# Altium footprint library Connector_Dsub.PcbLib: 120 footprints (part 7 of 8)
Each footprint in its own frame and in the unit in brackets; x right, y up, seen from the top. Pads: shape width x height; smd on the part's side, far side on the other; paste and mask are expansions set on the pad; w line width, h text height; cw(c..) or ccw(c..) is an arc to the next point about the centre after c.
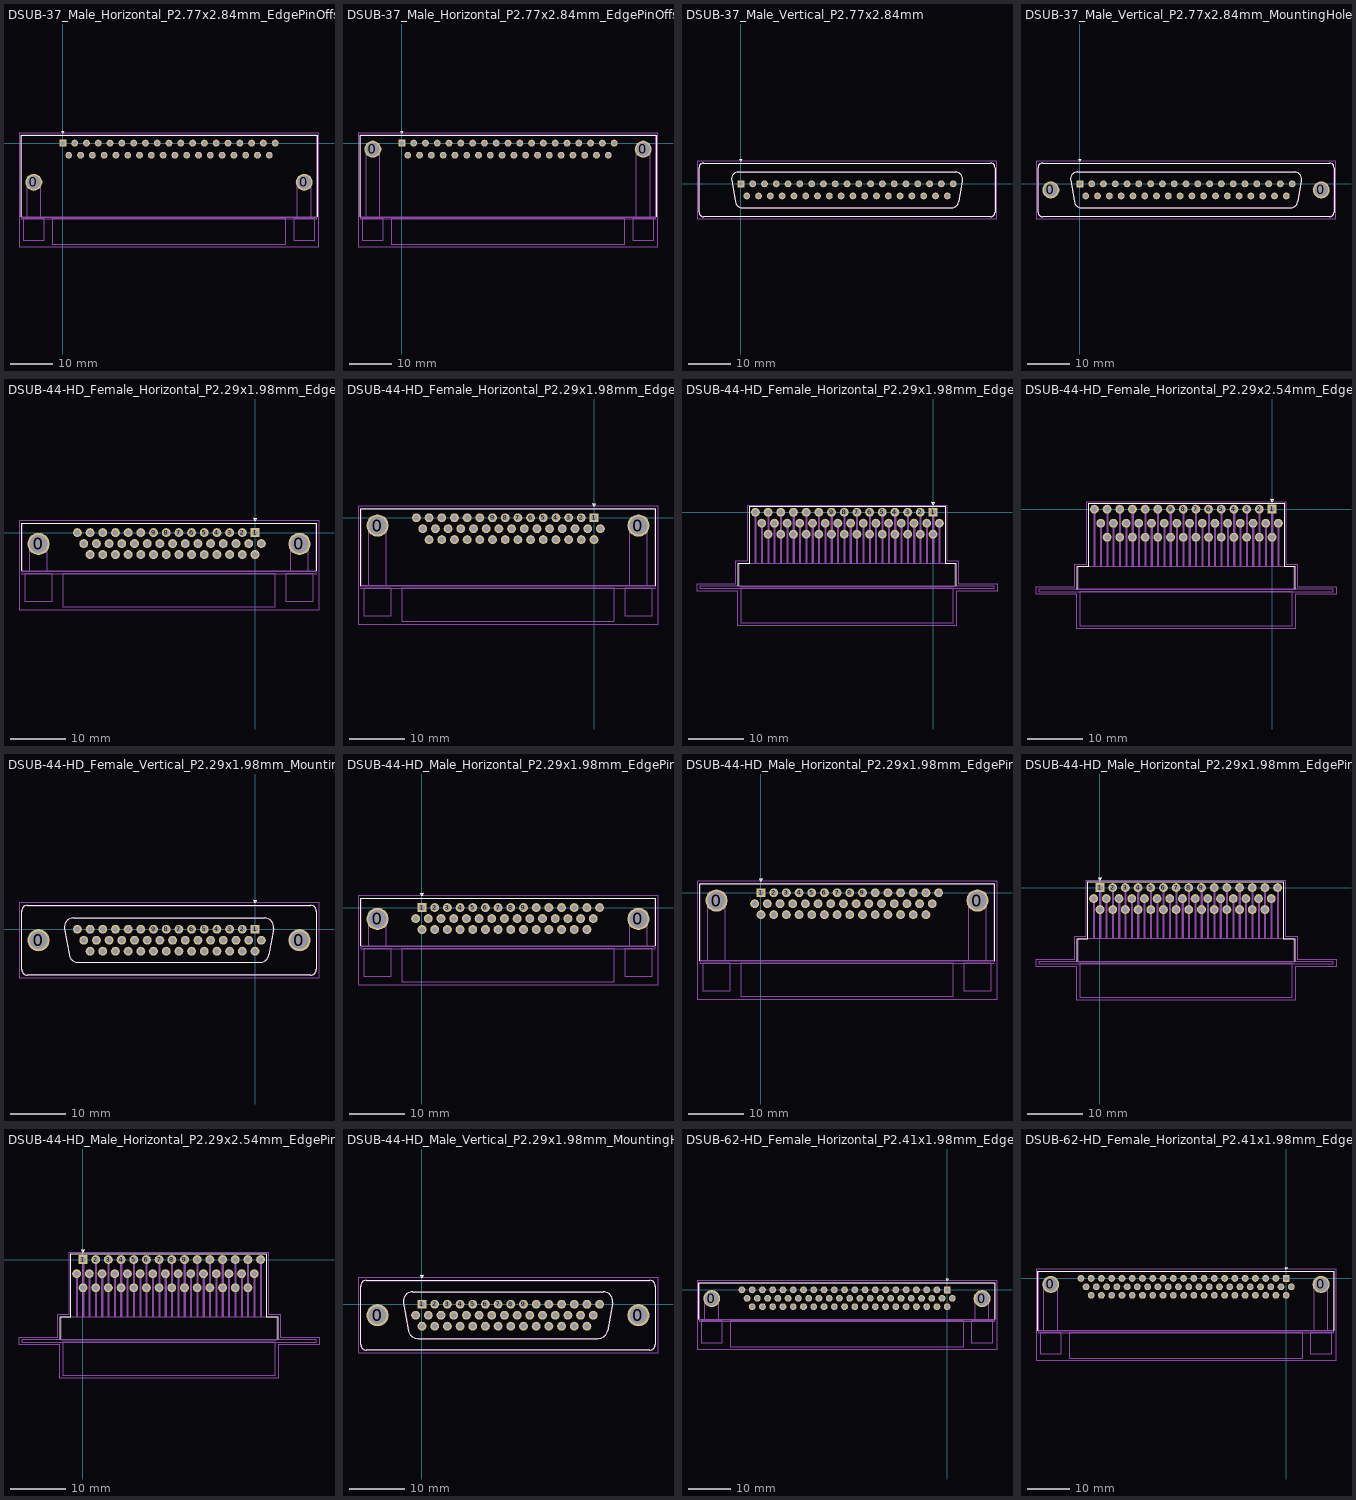
[diagram p6: the footprints below, top view; thin cyan lines are the x and y axes]

## DSUB-37_Male_Horizontal_P2.77x2.84mm_EdgePinOffset14.56mm_Housed_MountingHolesOffset8.20mm [mm]
pads (39):
  round 4 hole 3.2: 0(-6.82,-9.2) 0(56.68,-9.2)
  rect 1.6x1.6 hole 1: 1(0,0)
  round 1.6 hole 1: 2(2.77,0) 3(5.54,0) 4(8.31,0) 5(11.08,0) 6(13.85,0) 7(16.62,0) 8(19.39,0) 9(22.16,0) 10(24.93,0) 11(27.7,0) 12(30.47,0) 13(33.24,0) 14(36.01,0) 15(38.78,0) 16(41.55,0) 17(44.32,0) 18(47.09,0) 19(49.86,0) 20(1.385,-2.84) 21(4.155,-2.84) 22(6.925,-2.84) 23(9.695,-2.84) 24(12.465,-2.84) 25(15.235,-2.84) 26(18.005,-2.84) 27(20.775,-2.84) 28(23.545,-2.84) 29(26.315,-2.84) 30(29.085,-2.84) 31(31.855,-2.84) 32(34.625,-2.84) 33(37.395,-2.84) 34(40.165,-2.84) 35(42.935,-2.84) 36(45.705,-2.84) 37(48.475,-2.84)
F.SilkS:
  lines w0.12: -9.83,-17.34 -9.83,1.86 59.69,1.86 59.69,-17.34 ; -0.25,2.754 0,2.321 0.25,2.754 -0.25,2.754
F.CrtYd:
  lines w0.05: -10.3,-24.3 60.15,-24.3 60.15,2.3 -10.3,2.3 -10.3,-24.3
F.Fab:
  lines w0.1: -8.42,-17.4 -8.42,-9.2 cw(c-6.82,-9.2) -5.22,-9.2 -5.22,-17.4 ; 55.08,-17.4 55.08,-9.2 cw(c56.68,-9.2) 58.28,-9.2 58.28,-17.4 ; -9.77,-17.4 59.63,-17.4 ; -9.77,-17.4 -9.77,-17.8 59.63,-17.8 59.63,-17.4 ; -9.77,-17.4 -9.77,1.8 59.63,1.8 59.63,-17.4 ; -9.77,-17.4 59.63,-17.4 ; -9.32,-22.8 -4.32,-22.8 -4.32,-17.8 -9.32,-17.8 -9.32,-22.8 ; -2.47,-23.8 52.33,-23.8 52.33,-17.8 -2.47,-17.8 -2.47,-23.8 ; 54.18,-22.8 54.18,-17.8 59.18,-17.8 59.18,-22.8 54.18,-22.8
  text "'.Designator'" at 20.883,-21.64 h1

## DSUB-37_Male_Horizontal_P2.77x2.84mm_EdgePinOffset14.56mm_Housed_MountingHolesOffset15.98mm [mm]
pads (39):
  round 4 hole 3.2: 0(-6.82,-1.42) 0(56.68,-1.42)
  rect 1.6x1.6 hole 1: 1(0,0)
  round 1.6 hole 1: 2(2.77,0) 3(5.54,0) 4(8.31,0) 5(11.08,0) 6(13.85,0) 7(16.62,0) 8(19.39,0) 9(22.16,0) 10(24.93,0) 11(27.7,0) 12(30.47,0) 13(33.24,0) 14(36.01,0) 15(38.78,0) 16(41.55,0) 17(44.32,0) 18(47.09,0) 19(49.86,0) 20(1.385,-2.84) 21(4.155,-2.84) 22(6.925,-2.84) 23(9.695,-2.84) 24(12.465,-2.84) 25(15.235,-2.84) 26(18.005,-2.84) 27(20.775,-2.84) 28(23.545,-2.84) 29(26.315,-2.84) 30(29.085,-2.84) 31(31.855,-2.84) 32(34.625,-2.84) 33(37.395,-2.84) 34(40.165,-2.84) 35(42.935,-2.84) 36(45.705,-2.84) 37(48.475,-2.84)
F.SilkS:
  lines w0.12: -9.83,-17.34 -9.83,1.86 59.69,1.86 59.69,-17.34 ; -0.25,2.754 0,2.321 0.25,2.754 -0.25,2.754
F.CrtYd:
  lines w0.05: -10.3,-24.3 60.15,-24.3 60.15,2.3 -10.3,2.3 -10.3,-24.3
F.Fab:
  lines w0.1: -8.42,-17.4 -8.42,-1.42 cw(c-6.82,-1.42) -5.22,-1.42 -5.22,-17.4 ; 55.08,-17.4 55.08,-1.42 cw(c56.68,-1.42) 58.28,-1.42 58.28,-17.4 ; -9.77,-17.4 -9.77,-17.8 59.63,-17.8 59.63,-17.4 ; -9.77,-17.4 59.63,-17.4 ; -9.77,-17.4 59.63,-17.4 ; -9.77,-17.4 -9.77,1.8 59.63,1.8 59.63,-17.4 ; -9.32,-22.8 -9.32,-17.8 -4.32,-17.8 -4.32,-22.8 -9.32,-22.8 ; -2.47,-23.8 52.33,-23.8 52.33,-17.8 -2.47,-17.8 -2.47,-23.8 ; 54.18,-22.8 59.18,-22.8 59.18,-17.8 54.18,-17.8 54.18,-22.8
  text "'.Designator'" at 20.883,-21.64 h1

## DSUB-37_Male_Vertical_P2.77x2.84mm [mm]
pads (37):
  rect 1.6x1.6 hole 1: 1(0,0)
  round 1.6 hole 1: 2(2.77,0) 3(5.54,0) 4(8.31,0) 5(11.08,0) 6(13.85,0) 7(16.62,0) 8(19.39,0) 9(22.16,0) 10(24.93,0) 11(27.7,0) 12(30.47,0) 13(33.24,0) 14(36.01,0) 15(38.78,0) 16(41.55,0) 17(44.32,0) 18(47.09,0) 19(49.86,0) 20(1.385,-2.84) 21(4.155,-2.84) 22(6.925,-2.84) 23(9.695,-2.84) 24(12.465,-2.84) 25(15.235,-2.84) 26(18.005,-2.84) 27(20.775,-2.84) 28(23.545,-2.84) 29(26.315,-2.84) 30(29.085,-2.84) 31(31.855,-2.84) 32(34.625,-2.84) 33(37.395,-2.84) 34(40.165,-2.84) 35(42.935,-2.84) 36(45.705,-2.84) 37(48.475,-2.84)
F.SilkS:
  lines w0.12: -9.83,-6.67 -9.83,3.83 cw(c-8.77,3.83) -8.77,4.89 58.63,4.89 cw(c58.63,3.83) 59.69,3.83 59.69,-6.67 cw(c58.63,-6.67) 58.63,-7.73 -8.77,-7.73 cw(c-8.77,-6.67) -9.83,-6.67 ; -2.186,0.842 -1.287,-4.258 ccw(c0.348,-3.97) 0.348,-5.63 49.512,-5.63 ccw(c49.512,-3.97) 51.147,-4.258 52.046,0.842 ccw(c50.412,1.13) 50.412,2.79 -0.552,2.79 ccw(c-0.552,1.13) -2.186,0.842 ; -0.25,5.784 0.25,5.784 0,5.351 -0.25,5.784
F.CrtYd:
  lines w0.05: -10.3,-8.2 60.15,-8.2 60.15,5.35 -10.3,5.35 -10.3,-8.2
F.Fab:
  lines w0.1: -9.77,-6.67 -9.77,3.83 cw(c-8.77,3.83) -8.77,4.83 58.63,4.83 cw(c58.63,3.83) 59.63,3.83 59.63,-6.67 cw(c58.63,-6.67) 58.63,-7.67 -8.77,-7.67 cw(c-8.77,-6.67) -9.77,-6.67 ; -2.139,0.852 -1.24,-4.248 ccw(c0.336,-3.97) 0.336,-5.57 49.524,-5.57 ccw(c49.524,-3.97) 51.1,-4.248 51.999,0.852 ccw(c50.423,1.13) 50.423,2.73 -0.563,2.73 ccw(c-0.563,1.13) -2.139,0.852
  text "'.Designator'" at 20.883,-2.26 h1

## DSUB-37_Male_Vertical_P2.77x2.84mm_MountingHoles [mm]
pads (39):
  round 4 hole 3.2: 0(-6.82,-1.42) 0(56.68,-1.42)
  rect 1.6x1.6 hole 1: 1(0,0)
  round 1.6 hole 1: 2(2.77,0) 3(5.54,0) 4(8.31,0) 5(11.08,0) 6(13.85,0) 7(16.62,0) 8(19.39,0) 9(22.16,0) 10(24.93,0) 11(27.7,0) 12(30.47,0) 13(33.24,0) 14(36.01,0) 15(38.78,0) 16(41.55,0) 17(44.32,0) 18(47.09,0) 19(49.86,0) 20(1.385,-2.84) 21(4.155,-2.84) 22(6.925,-2.84) 23(9.695,-2.84) 24(12.465,-2.84) 25(15.235,-2.84) 26(18.005,-2.84) 27(20.775,-2.84) 28(23.545,-2.84) 29(26.315,-2.84) 30(29.085,-2.84) 31(31.855,-2.84) 32(34.625,-2.84) 33(37.395,-2.84) 34(40.165,-2.84) 35(42.935,-2.84) 36(45.705,-2.84) 37(48.475,-2.84)
F.SilkS:
  lines w0.12: -9.83,-6.67 -9.83,3.83 cw(c-8.77,3.83) -8.77,4.89 58.63,4.89 cw(c58.63,3.83) 59.69,3.83 59.69,-6.67 cw(c58.63,-6.67) 58.63,-7.73 -8.77,-7.73 cw(c-8.77,-6.67) -9.83,-6.67 ; -2.186,0.842 -1.287,-4.258 ccw(c0.348,-3.97) 0.348,-5.63 49.512,-5.63 ccw(c49.512,-3.97) 51.147,-4.258 52.046,0.842 ccw(c50.412,1.13) 50.412,2.79 -0.552,2.79 ccw(c-0.552,1.13) -2.186,0.842 ; -0.25,5.784 0,5.351 0.25,5.784 -0.25,5.784
F.CrtYd:
  lines w0.05: -10.3,-8.2 -10.3,5.35 60.15,5.35 60.15,-8.2 -10.3,-8.2
F.Fab:
  lines w0.1: -9.77,-6.67 -9.77,3.83 cw(c-8.77,3.83) -8.77,4.83 58.63,4.83 cw(c58.63,3.83) 59.63,3.83 59.63,-6.67 cw(c58.63,-6.67) 58.63,-7.67 -8.77,-7.67 cw(c-8.77,-6.67) -9.77,-6.67 ; -2.139,0.852 -1.24,-4.248 ccw(c0.336,-3.97) 0.336,-5.57 49.524,-5.57 ccw(c49.524,-3.97) 51.1,-4.248 51.999,0.852 ccw(c50.423,1.13) 50.423,2.73 -0.563,2.73 ccw(c-0.563,1.13) -2.139,0.852
  text "'.Designator'" at 20.883,-2.26 h1

## DSUB-44-HD_Female_Horizontal_P2.29x1.98mm_EdgePinOffset3.03mm_Housed_MountingHolesOffset4.94mm [mm]
pads (46):
  round 4 hole 3.2: 0(-39.075,-2.05) 0(8.025,-2.05)
  rect 1.6x1.6 hole 1: 1(0,0)
  round 1.6 hole 1: 2(-2.29,0) 3(-4.58,0) 4(-6.87,0) 5(-9.16,0) 6(-11.45,0) 7(-13.74,0) 8(-16.03,0) 9(-18.32,0) 10(-20.61,0) 11(-22.9,0) 12(-25.19,0) 13(-27.48,0) 14(-29.77,0) 15(-32.06,0) 16(1.145,-1.98) 17(-1.145,-1.98) 18(-3.435,-1.98) 19(-5.725,-1.98) 20(-8.015,-1.98) 21(-10.305,-1.98) 22(-12.595,-1.98) 23(-14.885,-1.98) 24(-17.175,-1.98) 25(-19.465,-1.98) 26(-21.755,-1.98) 27(-24.045,-1.98) 28(-26.335,-1.98) 29(-28.625,-1.98) 30(-30.915,-1.98) 31(0,-3.96) 32(-2.29,-3.96) 33(-4.58,-3.96) 34(-6.87,-3.96) 35(-9.16,-3.96) 36(-11.45,-3.96) 37(-13.74,-3.96) 38(-16.03,-3.96) 39(-18.32,-3.96) 40(-20.61,-3.96) 41(-22.9,-3.96) 42(-25.19,-3.96) 43(-27.48,-3.96) 44(-29.77,-3.96)
F.SilkS:
  lines w0.12: -42.135,-6.93 -42.135,1.67 11.085,1.67 11.085,-6.93 ; -0.25,2.564 0,2.131 0.25,2.564 -0.25,2.564
F.CrtYd:
  lines w0.05: -42.6,-13.9 11.55,-13.9 11.55,2.15 -42.6,2.15 -42.6,-13.9
F.Fab:
  lines w0.1: -40.675,-6.99 -40.675,-2.05 cw(c-39.075,-2.05) -37.475,-2.05 -37.475,-6.99 ; 6.425,-6.99 6.425,-2.05 cw(c8.025,-2.05) 9.625,-2.05 9.625,-6.99 ; -42.075,-6.99 11.025,-6.99 ; -42.075,-6.99 -42.075,-7.39 11.025,-7.39 11.025,-6.99 ; -42.075,-6.99 -42.075,1.61 11.025,1.61 11.025,-6.99 ; -42.075,-6.99 11.025,-6.99 ; -41.575,-12.39 -41.575,-7.39 -36.575,-7.39 -36.575,-12.39 -41.575,-12.39 ; -34.675,-13.39 -34.675,-7.39 3.625,-7.39 3.625,-13.39 -34.675,-13.39 ; 5.525,-12.39 10.525,-12.39 10.525,-7.39 5.525,-7.39 5.525,-12.39
  text "'.Designator'" at -19.572,-11.23 h1

## DSUB-44-HD_Female_Horizontal_P2.29x1.98mm_EdgePinOffset8.35mm_Housed_MountingHolesOffset10.89mm [mm]
pads (46):
  round 4 hole 3.2: 0(-39.075,-1.42) 0(8.025,-1.42)
  rect 1.6x1.6 hole 1: 1(0,0)
  round 1.6 hole 1: 2(-2.29,0) 3(-4.58,0) 4(-6.87,0) 5(-9.16,0) 6(-11.45,0) 7(-13.74,0) 8(-16.03,0) 9(-18.32,0) 10(-20.61,0) 11(-22.9,0) 12(-25.19,0) 13(-27.48,0) 14(-29.77,0) 15(-32.06,0) 16(1.145,-1.98) 17(-1.145,-1.98) 18(-3.435,-1.98) 19(-5.725,-1.98) 20(-8.015,-1.98) 21(-10.305,-1.98) 22(-12.595,-1.98) 23(-14.885,-1.98) 24(-17.175,-1.98) 25(-19.465,-1.98) 26(-21.755,-1.98) 27(-24.045,-1.98) 28(-26.335,-1.98) 29(-28.625,-1.98) 30(-30.915,-1.98) 31(0,-3.96) 32(-2.29,-3.96) 33(-4.58,-3.96) 34(-6.87,-3.96) 35(-9.16,-3.96) 36(-11.45,-3.96) 37(-13.74,-3.96) 38(-16.03,-3.96) 39(-18.32,-3.96) 40(-20.61,-3.96) 41(-22.9,-3.96) 42(-25.19,-3.96) 43(-27.48,-3.96) 44(-29.77,-3.96)
F.SilkS:
  lines w0.12: -42.135,-12.25 -42.135,1.64 11.085,1.64 11.085,-12.25 ; -0.25,2.534 0,2.101 0.25,2.534 -0.25,2.534
F.CrtYd:
  lines w0.05: -42.6,-19.25 -42.6,2.1 11.55,2.1 11.55,-19.25 -42.6,-19.25
F.Fab:
  lines w0.1: -40.675,-12.31 -40.675,-1.42 cw(c-39.075,-1.42) -37.475,-1.42 -37.475,-12.31 ; 6.425,-12.31 6.425,-1.42 cw(c8.025,-1.42) 9.625,-1.42 9.625,-12.31 ; -42.075,-12.31 11.025,-12.31 ; -42.075,-12.31 -42.075,-12.71 11.025,-12.71 11.025,-12.31 ; -42.075,-12.31 -42.075,1.58 11.025,1.58 11.025,-12.31 ; -42.075,-12.31 11.025,-12.31 ; -41.575,-17.71 -36.575,-17.71 -36.575,-12.71 -41.575,-12.71 -41.575,-17.71 ; -34.675,-18.71 3.625,-18.71 3.625,-12.71 -34.675,-12.71 -34.675,-18.71 ; 5.525,-17.71 5.525,-12.71 10.525,-12.71 10.525,-17.71 5.525,-17.71
  text "'.Designator'" at -19.572,-16.55 h1

## DSUB-44-HD_Female_Horizontal_P2.29x1.98mm_EdgePinOffset9.40mm [mm]
pads (44):
  rect 1.6x1.6 hole 1: 1(0,0)
  round 1.6 hole 1: 2(-2.29,0) 3(-4.58,0) 4(-6.87,0) 5(-9.16,0) 6(-11.45,0) 7(-13.74,0) 8(-16.03,0) 9(-18.32,0) 10(-20.61,0) 11(-22.9,0) 12(-25.19,0) 13(-27.48,0) 14(-29.77,0) 15(-32.06,0) 16(1.145,-1.98) 17(-1.145,-1.98) 18(-3.435,-1.98) 19(-5.725,-1.98) 20(-8.015,-1.98) 21(-10.305,-1.98) 22(-12.595,-1.98) 23(-14.885,-1.98) 24(-17.175,-1.98) 25(-19.465,-1.98) 26(-21.755,-1.98) 27(-24.045,-1.98) 28(-26.335,-1.98) 29(-28.625,-1.98) 30(-30.915,-1.98) 31(0,-3.96) 32(-2.29,-3.96) 33(-4.58,-3.96) 34(-6.87,-3.96) 35(-9.16,-3.96) 36(-11.45,-3.96) 37(-13.74,-3.96) 38(-16.03,-3.96) 39(-18.32,-3.96) 40(-20.61,-3.96) 41(-22.9,-3.96) 42(-25.19,-3.96) 43(-27.48,-3.96) 44(-29.77,-3.96)
F.SilkS:
  lines w0.12: -35.135,-13.3 -35.135,-9.2 -33.12,-9.2 -33.12,1.06 2.205,1.06 2.205,-9.2 4.085,-9.2 4.085,-13.3 ; -0.25,1.754 0,1.321 0.25,1.754 -0.25,1.754
F.CrtYd:
  lines w0.05: -42.6,-14.3 -35.2,-14.3 -35.2,-20.45 4.15,-20.45 4.15,-14.3 11.55,-14.3 11.55,-12.9 4.55,-12.9 4.55,-8.8 2.45,-8.8 2.45,1.3 -33.4,1.3 -33.4,-8.8 -35.6,-8.8 -35.6,-12.9 -42.6,-12.9 -42.6,-14.3
F.Fab:
  lines w0.1: -32.16,-9.26 -32.16,0 ; -32.06,-9.26 -32.06,0 ; -31.96,-9.26 -31.96,0 ; -31.015,-9.26 -31.015,-1.98 ; -30.915,-9.26 -30.915,-1.98 ; -30.815,-9.26 -30.815,-1.98 ; -29.87,-3.96 -29.87,-9.26 -29.87,0 ; -29.77,-3.96 -29.77,-9.26 -29.77,0 ; -29.67,-3.96 -29.67,-9.26 -29.67,0 ; -28.725,-9.26 -28.725,-1.98 ; -28.625,-9.26 -28.625,-1.98 ; -28.525,-9.26 -28.525,-1.98 ; -27.58,-3.96 -27.58,-9.26 -27.58,0 ; -27.48,-3.96 -27.48,-9.26 -27.48,0 ; -27.38,-3.96 -27.38,-9.26 -27.38,0 ; -26.435,-9.26 -26.435,-1.98 ; -26.335,-9.26 -26.335,-1.98 ; -26.235,-9.26 -26.235,-1.98 ; -25.29,-3.96 -25.29,-9.26 -25.29,0 ; -25.19,-3.96 -25.19,-9.26 -25.19,0 ; -25.09,-3.96 -25.09,-9.26 -25.09,0 ; -24.145,-9.26 -24.145,-1.98 ; -24.045,-9.26 -24.045,-1.98 ; -23.945,-9.26 -23.945,-1.98 ; -23,-3.96 -23,-9.26 -23,0 ; -22.9,-3.96 -22.9,-9.26 -22.9,0 ; -22.8,-3.96 -22.8,-9.26 -22.8,0 ; -21.855,-9.26 -21.855,-1.98 ; -21.755,-9.26 -21.755,-1.98 ; -21.655,-9.26 -21.655,-1.98 ; -20.71,-3.96 -20.71,-9.26 -20.71,0 ; -20.61,-3.96 -20.61,-9.26 -20.61,0 ; -20.51,-3.96 -20.51,-9.26 -20.51,0 ; -19.565,-9.26 -19.565,-1.98 ; -19.465,-9.26 -19.465,-1.98 ; -19.365,-9.26 -19.365,-1.98 ; -18.42,-3.96 -18.42,-9.26 -18.42,0 ; -18.32,-3.96 -18.32,-9.26 -18.32,0 ; -18.22,-3.96 -18.22,-9.26 -18.22,0 ; -17.275,-9.26 -17.275,-1.98 ; -17.175,-9.26 -17.175,-1.98 ; -17.075,-9.26 -17.075,-1.98 ; -16.13,-3.96 -16.13,-9.26 -16.13,0 ; -16.03,-3.96 -16.03,-9.26 -16.03,0 ; -15.93,-3.96 -15.93,-9.26 -15.93,0 ; -14.985,-9.26 -14.985,-1.98 ; -14.885,-9.26 -14.885,-1.98 ; -14.785,-9.26 -14.785,-1.98 ; -13.84,-3.96 -13.84,-9.26 -13.84,0 ; -13.74,-3.96 -13.74,-9.26 -13.74,0 ; -13.64,-3.96 -13.64,-9.26 -13.64,0 ; -12.695,-9.26 -12.695,-1.98 ; -12.595,-9.26 -12.595,-1.98 ; -12.495,-9.26 -12.495,-1.98 ; -11.55,-3.96 -11.55,-9.26 -11.55,0 ; -11.45,-3.96 -11.45,-9.26 -11.45,0 ; -11.35,-3.96 -11.35,-9.26 -11.35,0 ; -10.405,-9.26 -10.405,-1.98 ; -10.305,-9.26 -10.305,-1.98 ; -10.205,-9.26 -10.205,-1.98 ; -9.26,-3.96 -9.26,-9.26 -9.26,0 ; -9.16,-3.96 -9.16,-9.26 -9.16,0 ; -9.06,-3.96 -9.06,-9.26 -9.06,0 ; -8.115,-9.26 -8.115,-1.98 ; -8.015,-9.26 -8.015,-1.98 ; -7.915,-9.26 -7.915,-1.98 ; -6.97,-3.96 -6.97,-9.26 -6.97,0 ; -6.87,-3.96 -6.87,-9.26 -6.87,0 ; -6.77,-3.96 -6.77,-9.26 -6.77,0 ; -5.825,-9.26 -5.825,-1.98 ; -5.725,-9.26 -5.725,-1.98 ; -5.625,-9.26 -5.625,-1.98 ; -4.68,-3.96 -4.68,-9.26 -4.68,0 ; -4.58,-3.96 -4.58,-9.26 -4.58,0 ; -4.48,-3.96 -4.48,-9.26 -4.48,0 ; -3.535,-9.26 -3.535,-1.98 ; -3.435,-9.26 -3.435,-1.98 ; -3.335,-9.26 -3.335,-1.98 ; -2.39,-3.96 -2.39,-9.26 -2.39,0 ; -2.29,-3.96 -2.29,-9.26 -2.29,0 ; -2.19,-3.96 -2.19,-9.26 -2.19,0 ; -1.245,-9.26 -1.245,-1.98 ; -1.145,-9.26 -1.145,-1.98 ; -1.045,-9.26 -1.045,-1.98 ; -0.1,-3.96 -0.1,-9.26 -0.1,0 ; 0,-3.96 0,-9.26 0,0 ; 0.1,-3.96 0.1,-9.26 0.1,0 ; 1.045,-9.26 1.045,-1.98 ; 1.145,-9.26 1.145,-1.98 ; 1.245,-9.26 1.245,-1.98 ; -42.075,-13.76 11.025,-13.76 11.025,-13.36 -42.075,-13.36 -42.075,-13.76 ; -35.075,-13.36 -35.075,-9.26 4.025,-9.26 4.025,-13.36 -35.075,-13.36 ; -34.675,-19.93 3.625,-19.93 3.625,-13.76 -34.675,-13.76 -34.675,-19.93
  text "'.Designator'" at -19.572,-17.685 h1

## DSUB-44-HD_Female_Horizontal_P2.29x2.54mm_EdgePinOffset9.40mm [mm]
pads (44):
  rect 1.6x1.6 hole 1: 1(0,0)
  round 1.6 hole 1: 2(-2.29,0) 3(-4.58,0) 4(-6.87,0) 5(-9.16,0) 6(-11.45,0) 7(-13.74,0) 8(-16.03,0) 9(-18.32,0) 10(-20.61,0) 11(-22.9,0) 12(-25.19,0) 13(-27.48,0) 14(-29.77,0) 15(-32.06,0) 16(1.145,-2.54) 17(-1.145,-2.54) 18(-3.435,-2.54) 19(-5.725,-2.54) 20(-8.015,-2.54) 21(-10.305,-2.54) 22(-12.595,-2.54) 23(-14.885,-2.54) 24(-17.175,-2.54) 25(-19.465,-2.54) 26(-21.755,-2.54) 27(-24.045,-2.54) 28(-26.335,-2.54) 29(-28.625,-2.54) 30(-30.915,-2.54) 31(0,-5.08) 32(-2.29,-5.08) 33(-4.58,-5.08) 34(-6.87,-5.08) 35(-9.16,-5.08) 36(-11.45,-5.08) 37(-13.74,-5.08) 38(-16.03,-5.08) 39(-18.32,-5.08) 40(-20.61,-5.08) 41(-22.9,-5.08) 42(-25.19,-5.08) 43(-27.48,-5.08) 44(-29.77,-5.08)
F.SilkS:
  lines w0.12: -35.135,-14.42 -35.135,-10.32 -33.12,-10.32 -33.12,1.06 2.205,1.06 2.205,-10.32 4.085,-10.32 4.085,-14.42 ; -0.25,1.754 0,1.321 0.25,1.754 -0.25,1.754
F.CrtYd:
  lines w0.05: -42.6,-15.4 -42.6,-14 -35.6,-14 -35.6,-9.9 -33.4,-9.9 -33.4,1.35 2.45,1.35 2.45,-9.9 4.55,-9.9 4.55,-14 11.55,-14 11.55,-15.4 4.15,-15.4 4.15,-21.55 -35.2,-21.55 -35.2,-15.4 -42.6,-15.4
F.Fab:
  lines w0.1: -32.16,-10.38 -32.16,0 ; -32.06,-10.38 -32.06,0 ; -31.96,-10.38 -31.96,0 ; -31.015,-10.38 -31.015,-2.54 ; -30.915,-10.38 -30.915,-2.54 ; -30.815,-10.38 -30.815,-2.54 ; -29.87,-5.08 -29.87,-10.38 -29.87,0 ; -29.77,-5.08 -29.77,-10.38 -29.77,0 ; -29.67,-5.08 -29.67,-10.38 -29.67,0 ; -28.725,-10.38 -28.725,-2.54 ; -28.625,-10.38 -28.625,-2.54 ; -28.525,-10.38 -28.525,-2.54 ; -27.58,-5.08 -27.58,-10.38 -27.58,0 ; -27.48,-5.08 -27.48,-10.38 -27.48,0 ; -27.38,-5.08 -27.38,-10.38 -27.38,0 ; -26.435,-10.38 -26.435,-2.54 ; -26.335,-10.38 -26.335,-2.54 ; -26.235,-10.38 -26.235,-2.54 ; -25.29,-5.08 -25.29,-10.38 -25.29,0 ; -25.19,-5.08 -25.19,-10.38 -25.19,0 ; -25.09,-5.08 -25.09,-10.38 -25.09,0 ; -24.145,-10.38 -24.145,-2.54 ; -24.045,-10.38 -24.045,-2.54 ; -23.945,-10.38 -23.945,-2.54 ; -23,-5.08 -23,-10.38 -23,0 ; -22.9,-5.08 -22.9,-10.38 -22.9,0 ; -22.8,-5.08 -22.8,-10.38 -22.8,0 ; -21.855,-10.38 -21.855,-2.54 ; -21.755,-10.38 -21.755,-2.54 ; -21.655,-10.38 -21.655,-2.54 ; -20.71,-5.08 -20.71,-10.38 -20.71,0 ; -20.61,-5.08 -20.61,-10.38 -20.61,0 ; -20.51,-5.08 -20.51,-10.38 -20.51,0 ; -19.565,-10.38 -19.565,-2.54 ; -19.465,-10.38 -19.465,-2.54 ; -19.365,-10.38 -19.365,-2.54 ; -18.42,-5.08 -18.42,-10.38 -18.42,0 ; -18.32,-5.08 -18.32,-10.38 -18.32,0 ; -18.22,-5.08 -18.22,-10.38 -18.22,0 ; -17.275,-10.38 -17.275,-2.54 ; -17.175,-10.38 -17.175,-2.54 ; -17.075,-10.38 -17.075,-2.54 ; -16.13,-5.08 -16.13,-10.38 -16.13,0 ; -16.03,-5.08 -16.03,-10.38 -16.03,0 ; -15.93,-5.08 -15.93,-10.38 -15.93,0 ; -14.985,-10.38 -14.985,-2.54 ; -14.885,-10.38 -14.885,-2.54 ; -14.785,-10.38 -14.785,-2.54 ; -13.84,-5.08 -13.84,-10.38 -13.84,0 ; -13.74,-5.08 -13.74,-10.38 -13.74,0 ; -13.64,-5.08 -13.64,-10.38 -13.64,0 ; -12.695,-10.38 -12.695,-2.54 ; -12.595,-10.38 -12.595,-2.54 ; -12.495,-10.38 -12.495,-2.54 ; -11.55,-5.08 -11.55,-10.38 -11.55,0 ; -11.45,-5.08 -11.45,-10.38 -11.45,0 ; -11.35,-5.08 -11.35,-10.38 -11.35,0 ; -10.405,-10.38 -10.405,-2.54 ; -10.305,-10.38 -10.305,-2.54 ; -10.205,-10.38 -10.205,-2.54 ; -9.26,-5.08 -9.26,-10.38 -9.26,0 ; -9.16,-5.08 -9.16,-10.38 -9.16,0 ; -9.06,-5.08 -9.06,-10.38 -9.06,0 ; -8.115,-10.38 -8.115,-2.54 ; -8.015,-10.38 -8.015,-2.54 ; -7.915,-10.38 -7.915,-2.54 ; -6.97,-5.08 -6.97,-10.38 -6.97,0 ; -6.87,-5.08 -6.87,-10.38 -6.87,0 ; -6.77,-5.08 -6.77,-10.38 -6.77,0 ; -5.825,-10.38 -5.825,-2.54 ; -5.725,-10.38 -5.725,-2.54 ; -5.625,-10.38 -5.625,-2.54 ; -4.68,-5.08 -4.68,-10.38 -4.68,0 ; -4.58,-5.08 -4.58,-10.38 -4.58,0 ; -4.48,-5.08 -4.48,-10.38 -4.48,0 ; -3.535,-10.38 -3.535,-2.54 ; -3.435,-10.38 -3.435,-2.54 ; -3.335,-10.38 -3.335,-2.54 ; -2.39,-5.08 -2.39,-10.38 -2.39,0 ; -2.29,-5.08 -2.29,-10.38 -2.29,0 ; -2.19,-5.08 -2.19,-10.38 -2.19,0 ; -1.245,-10.38 -1.245,-2.54 ; -1.145,-10.38 -1.145,-2.54 ; -1.045,-10.38 -1.045,-2.54 ; -0.1,-5.08 -0.1,-10.38 -0.1,0 ; 0,-5.08 0,-10.38 0,0 ; 0.1,-5.08 0.1,-10.38 0.1,0 ; 1.045,-10.38 1.045,-2.54 ; 1.145,-10.38 1.145,-2.54 ; 1.245,-10.38 1.245,-2.54 ; -42.075,-14.88 11.025,-14.88 11.025,-14.48 -42.075,-14.48 -42.075,-14.88 ; -35.075,-14.48 -35.075,-10.38 4.025,-10.38 4.025,-14.48 -35.075,-14.48 ; -34.675,-21.05 -34.675,-14.88 3.625,-14.88 3.625,-21.05 -34.675,-21.05
  text "'.Designator'" at -19.572,-18.805 h1

## DSUB-44-HD_Female_Vertical_P2.29x1.98mm_MountingHoles [mm]
pads (46):
  round 4 hole 3.2: 0(-39.075,-1.98) 0(8.025,-1.98)
  rect 1.6x1.6 hole 1: 1(0,0)
  round 1.6 hole 1: 2(-2.29,0) 3(-4.58,0) 4(-6.87,0) 5(-9.16,0) 6(-11.45,0) 7(-13.74,0) 8(-16.03,0) 9(-18.32,0) 10(-20.61,0) 11(-22.9,0) 12(-25.19,0) 13(-27.48,0) 14(-29.77,0) 15(-32.06,0) 16(1.145,-1.98) 17(-1.145,-1.98) 18(-3.435,-1.98) 19(-5.725,-1.98) 20(-8.015,-1.98) 21(-10.305,-1.98) 22(-12.595,-1.98) 23(-14.885,-1.98) 24(-17.175,-1.98) 25(-19.465,-1.98) 26(-21.755,-1.98) 27(-24.045,-1.98) 28(-26.335,-1.98) 29(-28.625,-1.98) 30(-30.915,-1.98) 31(0,-3.96) 32(-2.29,-3.96) 33(-4.58,-3.96) 34(-6.87,-3.96) 35(-9.16,-3.96) 36(-11.45,-3.96) 37(-13.74,-3.96) 38(-16.03,-3.96) 39(-18.32,-3.96) 40(-20.61,-3.96) 41(-22.9,-3.96) 42(-25.19,-3.96) 43(-27.48,-3.96) 44(-29.77,-3.96)
F.SilkS:
  lines w0.12: -42.135,-7.23 -42.135,3.27 cw(c-41.075,3.27) -41.075,4.33 10.025,4.33 cw(c10.025,3.27) 11.085,3.27 11.085,-7.23 cw(c10.025,-7.23) 10.025,-8.29 -41.075,-8.29 cw(c-41.075,-7.23) -42.135,-7.23 ; -34.391,0.082 -33.563,-4.618 ccw(c-31.928,-4.33) -31.928,-5.99 0.878,-5.99 ccw(c0.878,-4.33) 2.513,-4.618 3.341,0.082 ccw(c1.707,0.37) 1.707,2.03 -32.757,2.03 ccw(c-32.757,0.37) -34.391,0.082 ; -0.25,5.224 0,4.791 0.25,5.224 -0.25,5.224
F.CrtYd:
  lines w0.05: -42.6,-8.75 -42.6,4.8 11.55,4.8 11.55,-8.75 -42.6,-8.75
F.Fab:
  lines w0.1: -42.075,-7.23 -42.075,3.27 cw(c-41.075,3.27) -41.075,4.27 10.025,4.27 cw(c10.025,3.27) 11.025,3.27 11.025,-7.23 cw(c10.025,-7.23) 10.025,-8.23 -41.075,-8.23 cw(c-41.075,-7.23) -42.075,-7.23 ; -34.344,0.092 -33.515,-4.608 ccw(c-31.939,-4.33) -31.939,-5.93 0.889,-5.93 ccw(c0.889,-4.33) 2.465,-4.608 3.294,0.092 ccw(c1.718,0.37) 1.718,1.97 -32.768,1.97 ccw(c-32.768,0.37) -34.344,0.092
  text "'.Designator'" at -19.572,-2.82 h1

## DSUB-44-HD_Male_Horizontal_P2.29x1.98mm_EdgePinOffset3.03mm_Housed_MountingHolesOffset4.94mm [mm]
pads (46):
  round 4 hole 3.2: 0(-8.025,-2.05) 0(39.075,-2.05)
  rect 1.6x1.6 hole 1: 1(0,0)
  round 1.6 hole 1: 2(2.29,0) 3(4.58,0) 4(6.87,0) 5(9.16,0) 6(11.45,0) 7(13.74,0) 8(16.03,0) 9(18.32,0) 10(20.61,0) 11(22.9,0) 12(25.19,0) 13(27.48,0) 14(29.77,0) 15(32.06,0) 16(-1.145,-1.98) 17(1.145,-1.98) 18(3.435,-1.98) 19(5.725,-1.98) 20(8.015,-1.98) 21(10.305,-1.98) 22(12.595,-1.98) 23(14.885,-1.98) 24(17.175,-1.98) 25(19.465,-1.98) 26(21.755,-1.98) 27(24.045,-1.98) 28(26.335,-1.98) 29(28.625,-1.98) 30(30.915,-1.98) 31(0,-3.96) 32(2.29,-3.96) 33(4.58,-3.96) 34(6.87,-3.96) 35(9.16,-3.96) 36(11.45,-3.96) 37(13.74,-3.96) 38(16.03,-3.96) 39(18.32,-3.96) 40(20.61,-3.96) 41(22.9,-3.96) 42(25.19,-3.96) 43(27.48,-3.96) 44(29.77,-3.96)
F.SilkS:
  lines w0.12: -11.085,-6.93 -11.085,1.67 42.135,1.67 42.135,-6.93 ; -0.25,2.564 0,2.131 0.25,2.564 -0.25,2.564
F.CrtYd:
  lines w0.05: -11.55,-13.9 -11.55,2.15 42.6,2.15 42.6,-13.9 -11.55,-13.9
F.Fab:
  lines w0.1: -9.625,-6.99 -9.625,-2.05 cw(c-8.025,-2.05) -6.425,-2.05 -6.425,-6.99 ; 37.475,-6.99 37.475,-2.05 cw(c39.075,-2.05) 40.675,-2.05 40.675,-6.99 ; -11.025,-6.99 -11.025,1.61 42.075,1.61 42.075,-6.99 ; -11.025,-6.99 42.075,-6.99 ; -11.025,-6.99 42.075,-6.99 ; -11.025,-6.99 -11.025,-7.39 42.075,-7.39 42.075,-6.99 ; -10.525,-12.39 -5.525,-12.39 -5.525,-7.39 -10.525,-7.39 -10.525,-12.39 ; -3.625,-13.39 -3.625,-7.39 34.675,-7.39 34.675,-13.39 -3.625,-13.39 ; 36.575,-12.39 36.575,-7.39 41.575,-7.39 41.575,-12.39 36.575,-12.39
  text "'.Designator'" at 11.478,-11.23 h1

## DSUB-44-HD_Male_Horizontal_P2.29x1.98mm_EdgePinOffset8.35mm_Housed_MountingHolesOffset10.89mm [mm]
pads (46):
  round 4 hole 3.2: 0(-8.025,-1.42) 0(39.075,-1.42)
  rect 1.6x1.6 hole 1: 1(0,0)
  round 1.6 hole 1: 2(2.29,0) 3(4.58,0) 4(6.87,0) 5(9.16,0) 6(11.45,0) 7(13.74,0) 8(16.03,0) 9(18.32,0) 10(20.61,0) 11(22.9,0) 12(25.19,0) 13(27.48,0) 14(29.77,0) 15(32.06,0) 16(-1.145,-1.98) 17(1.145,-1.98) 18(3.435,-1.98) 19(5.725,-1.98) 20(8.015,-1.98) 21(10.305,-1.98) 22(12.595,-1.98) 23(14.885,-1.98) 24(17.175,-1.98) 25(19.465,-1.98) 26(21.755,-1.98) 27(24.045,-1.98) 28(26.335,-1.98) 29(28.625,-1.98) 30(30.915,-1.98) 31(0,-3.96) 32(2.29,-3.96) 33(4.58,-3.96) 34(6.87,-3.96) 35(9.16,-3.96) 36(11.45,-3.96) 37(13.74,-3.96) 38(16.03,-3.96) 39(18.32,-3.96) 40(20.61,-3.96) 41(22.9,-3.96) 42(25.19,-3.96) 43(27.48,-3.96) 44(29.77,-3.96)
F.SilkS:
  lines w0.12: -11.085,-12.25 -11.085,1.64 42.135,1.64 42.135,-12.25 ; -0.25,2.534 0,2.101 0.25,2.534 -0.25,2.534
F.CrtYd:
  lines w0.05: -11.55,-19.25 42.6,-19.25 42.6,2.1 -11.55,2.1 -11.55,-19.25
F.Fab:
  lines w0.1: -9.625,-12.31 -9.625,-1.42 cw(c-8.025,-1.42) -6.425,-1.42 -6.425,-12.31 ; 37.475,-12.31 37.475,-1.42 cw(c39.075,-1.42) 40.675,-1.42 40.675,-12.31 ; -11.025,-12.31 -11.025,1.58 42.075,1.58 42.075,-12.31 ; -11.025,-12.31 42.075,-12.31 ; -11.025,-12.31 -11.025,-12.71 42.075,-12.71 42.075,-12.31 ; -11.025,-12.31 42.075,-12.31 ; -10.525,-17.71 -10.525,-12.71 -5.525,-12.71 -5.525,-17.71 -10.525,-17.71 ; -3.625,-18.71 -3.625,-12.71 34.675,-12.71 34.675,-18.71 -3.625,-18.71 ; 36.575,-17.71 41.575,-17.71 41.575,-12.71 36.575,-12.71 36.575,-17.71
  text "'.Designator'" at 11.478,-16.55 h1

## DSUB-44-HD_Male_Horizontal_P2.29x1.98mm_EdgePinOffset9.40mm [mm]
pads (44):
  rect 1.6x1.6 hole 1: 1(0,0)
  round 1.6 hole 1: 2(2.29,0) 3(4.58,0) 4(6.87,0) 5(9.16,0) 6(11.45,0) 7(13.74,0) 8(16.03,0) 9(18.32,0) 10(20.61,0) 11(22.9,0) 12(25.19,0) 13(27.48,0) 14(29.77,0) 15(32.06,0) 16(-1.145,-1.98) 17(1.145,-1.98) 18(3.435,-1.98) 19(5.725,-1.98) 20(8.015,-1.98) 21(10.305,-1.98) 22(12.595,-1.98) 23(14.885,-1.98) 24(17.175,-1.98) 25(19.465,-1.98) 26(21.755,-1.98) 27(24.045,-1.98) 28(26.335,-1.98) 29(28.625,-1.98) 30(30.915,-1.98) 31(0,-3.96) 32(2.29,-3.96) 33(4.58,-3.96) 34(6.87,-3.96) 35(9.16,-3.96) 36(11.45,-3.96) 37(13.74,-3.96) 38(16.03,-3.96) 39(18.32,-3.96) 40(20.61,-3.96) 41(22.9,-3.96) 42(25.19,-3.96) 43(27.48,-3.96) 44(29.77,-3.96)
F.SilkS:
  lines w0.12: -4.085,-13.3 -4.085,-9.2 -2.205,-9.2 -2.205,1.06 33.12,1.06 33.12,-9.2 35.135,-9.2 35.135,-13.3 ; -0.25,1.754 0,1.321 0.25,1.754 -0.25,1.754
F.CrtYd:
  lines w0.05: -11.55,-14.3 -4.15,-14.3 -4.15,-20.3 35.2,-20.3 35.2,-14.3 42.6,-14.3 42.6,-12.9 35.6,-12.9 35.6,-8.8 33.4,-8.8 33.4,1.3 -2.45,1.3 -2.45,-8.8 -4.55,-8.8 -4.55,-12.9 -11.55,-12.9 -11.55,-14.3
F.Fab:
  lines w0.1: -1.245,-9.26 -1.245,-1.98 ; -1.145,-9.26 -1.145,-1.98 ; -1.045,-9.26 -1.045,-1.98 ; -0.1,-3.96 -0.1,-9.26 -0.1,0 ; 0,-3.96 0,-9.26 0,0 ; 0.1,-3.96 0.1,-9.26 0.1,0 ; 1.045,-9.26 1.045,-1.98 ; 1.145,-9.26 1.145,-1.98 ; 1.245,-9.26 1.245,-1.98 ; 2.19,-3.96 2.19,-9.26 2.19,0 ; 2.29,-3.96 2.29,-9.26 2.29,0 ; 2.39,-3.96 2.39,-9.26 2.39,0 ; 3.335,-9.26 3.335,-1.98 ; 3.435,-9.26 3.435,-1.98 ; 3.535,-9.26 3.535,-1.98 ; 4.48,-3.96 4.48,-9.26 4.48,0 ; 4.58,-3.96 4.58,-9.26 4.58,0 ; 4.68,-3.96 4.68,-9.26 4.68,0 ; 5.625,-9.26 5.625,-1.98 ; 5.725,-9.26 5.725,-1.98 ; 5.825,-9.26 5.825,-1.98 ; 6.77,-3.96 6.77,-9.26 6.77,0 ; 6.87,-3.96 6.87,-9.26 6.87,0 ; 6.97,-3.96 6.97,-9.26 6.97,0 ; 7.915,-9.26 7.915,-1.98 ; 8.015,-9.26 8.015,-1.98 ; 8.115,-9.26 8.115,-1.98 ; 9.06,-3.96 9.06,-9.26 9.06,0 ; 9.16,-3.96 9.16,-9.26 9.16,0 ; 9.26,-3.96 9.26,-9.26 9.26,0 ; 10.205,-9.26 10.205,-1.98 ; 10.305,-9.26 10.305,-1.98 ; 10.405,-9.26 10.405,-1.98 ; 11.35,-3.96 11.35,-9.26 11.35,0 ; 11.45,-3.96 11.45,-9.26 11.45,0 ; 11.55,-3.96 11.55,-9.26 11.55,0 ; 12.495,-9.26 12.495,-1.98 ; 12.595,-9.26 12.595,-1.98 ; 12.695,-9.26 12.695,-1.98 ; 13.64,-3.96 13.64,-9.26 13.64,0 ; 13.74,-3.96 13.74,-9.26 13.74,0 ; 13.84,-3.96 13.84,-9.26 13.84,0 ; 14.785,-9.26 14.785,-1.98 ; 14.885,-9.26 14.885,-1.98 ; 14.985,-9.26 14.985,-1.98 ; 15.93,-3.96 15.93,-9.26 15.93,0 ; 16.03,-3.96 16.03,-9.26 16.03,0 ; 16.13,-3.96 16.13,-9.26 16.13,0 ; 17.075,-9.26 17.075,-1.98 ; 17.175,-9.26 17.175,-1.98 ; 17.275,-9.26 17.275,-1.98 ; 18.22,-3.96 18.22,-9.26 18.22,0 ; 18.32,-3.96 18.32,-9.26 18.32,0 ; 18.42,-3.96 18.42,-9.26 18.42,0 ; 19.365,-9.26 19.365,-1.98 ; 19.465,-9.26 19.465,-1.98 ; 19.565,-9.26 19.565,-1.98 ; 20.51,-3.96 20.51,-9.26 20.51,0 ; 20.61,-3.96 20.61,-9.26 20.61,0 ; 20.71,-3.96 20.71,-9.26 20.71,0 ; 21.655,-9.26 21.655,-1.98 ; 21.755,-9.26 21.755,-1.98 ; 21.855,-9.26 21.855,-1.98 ; 22.8,-3.96 22.8,-9.26 22.8,0 ; 22.9,-3.96 22.9,-9.26 22.9,0 ; 23,-3.96 23,-9.26 23,0 ; 23.945,-9.26 23.945,-1.98 ; 24.045,-9.26 24.045,-1.98 ; 24.145,-9.26 24.145,-1.98 ; 25.09,-3.96 25.09,-9.26 25.09,0 ; 25.19,-3.96 25.19,-9.26 25.19,0 ; 25.29,-3.96 25.29,-9.26 25.29,0 ; 26.235,-9.26 26.235,-1.98 ; 26.335,-9.26 26.335,-1.98 ; 26.435,-9.26 26.435,-1.98 ; 27.38,-3.96 27.38,-9.26 27.38,0 ; 27.48,-3.96 27.48,-9.26 27.48,0 ; 27.58,-3.96 27.58,-9.26 27.58,0 ; 28.525,-9.26 28.525,-1.98 ; 28.625,-9.26 28.625,-1.98 ; 28.725,-9.26 28.725,-1.98 ; 29.67,-3.96 29.67,-9.26 29.67,0 ; 29.77,-3.96 29.77,-9.26 29.77,0 ; 29.87,-3.96 29.87,-9.26 29.87,0 ; 30.815,-9.26 30.815,-1.98 ; 30.915,-9.26 30.915,-1.98 ; 31.015,-9.26 31.015,-1.98 ; 31.96,-9.26 31.96,0 ; 32.06,-9.26 32.06,0 ; 32.16,-9.26 32.16,0 ; -11.025,-13.76 42.075,-13.76 42.075,-13.36 -11.025,-13.36 -11.025,-13.76 ; -4.025,-13.36 35.075,-13.36 35.075,-9.26 -4.025,-9.26 -4.025,-13.36 ; -3.625,-19.76 34.675,-19.76 34.675,-13.76 -3.625,-13.76 -3.625,-19.76
  text "'.Designator'" at 11.478,-17.6 h1

## DSUB-44-HD_Male_Horizontal_P2.29x2.54mm_EdgePinOffset9.40mm [mm]
pads (44):
  rect 1.6x1.6 hole 1: 1(0,0)
  round 1.6 hole 1: 2(2.29,0) 3(4.58,0) 4(6.87,0) 5(9.16,0) 6(11.45,0) 7(13.74,0) 8(16.03,0) 9(18.32,0) 10(20.61,0) 11(22.9,0) 12(25.19,0) 13(27.48,0) 14(29.77,0) 15(32.06,0) 16(-1.145,-2.54) 17(1.145,-2.54) 18(3.435,-2.54) 19(5.725,-2.54) 20(8.015,-2.54) 21(10.305,-2.54) 22(12.595,-2.54) 23(14.885,-2.54) 24(17.175,-2.54) 25(19.465,-2.54) 26(21.755,-2.54) 27(24.045,-2.54) 28(26.335,-2.54) 29(28.625,-2.54) 30(30.915,-2.54) 31(0,-5.08) 32(2.29,-5.08) 33(4.58,-5.08) 34(6.87,-5.08) 35(9.16,-5.08) 36(11.45,-5.08) 37(13.74,-5.08) 38(16.03,-5.08) 39(18.32,-5.08) 40(20.61,-5.08) 41(22.9,-5.08) 42(25.19,-5.08) 43(27.48,-5.08) 44(29.77,-5.08)
F.SilkS:
  lines w0.12: -4.085,-14.42 -4.085,-10.32 -2.205,-10.32 -2.205,1.06 33.12,1.06 33.12,-10.32 35.135,-10.32 35.135,-14.42 ; -0.25,1.754 0.25,1.754 0,1.321 -0.25,1.754
F.CrtYd:
  lines w0.05: -11.55,-15.4 -11.55,-14 -4.55,-14 -4.55,-9.9 -2.45,-9.9 -2.45,1.35 33.4,1.35 33.4,-9.9 35.6,-9.9 35.6,-14 42.6,-14 42.6,-15.4 35.2,-15.4 35.2,-21.4 -4.15,-21.4 -4.15,-15.4 -11.55,-15.4
F.Fab:
  lines w0.1: -1.245,-10.38 -1.245,-2.54 ; -1.145,-10.38 -1.145,-2.54 ; -1.045,-10.38 -1.045,-2.54 ; -0.1,-5.08 -0.1,-10.38 -0.1,0 ; 0,-5.08 0,-10.38 0,0 ; 0.1,-5.08 0.1,-10.38 0.1,0 ; 1.045,-10.38 1.045,-2.54 ; 1.145,-10.38 1.145,-2.54 ; 1.245,-10.38 1.245,-2.54 ; 2.19,-5.08 2.19,-10.38 2.19,0 ; 2.29,-5.08 2.29,-10.38 2.29,0 ; 2.39,-5.08 2.39,-10.38 2.39,0 ; 3.335,-10.38 3.335,-2.54 ; 3.435,-10.38 3.435,-2.54 ; 3.535,-10.38 3.535,-2.54 ; 4.48,-5.08 4.48,-10.38 4.48,0 ; 4.58,-5.08 4.58,-10.38 4.58,0 ; 4.68,-5.08 4.68,-10.38 4.68,0 ; 5.625,-10.38 5.625,-2.54 ; 5.725,-10.38 5.725,-2.54 ; 5.825,-10.38 5.825,-2.54 ; 6.77,-5.08 6.77,-10.38 6.77,0 ; 6.87,-5.08 6.87,-10.38 6.87,0 ; 6.97,-5.08 6.97,-10.38 6.97,0 ; 7.915,-10.38 7.915,-2.54 ; 8.015,-10.38 8.015,-2.54 ; 8.115,-10.38 8.115,-2.54 ; 9.06,-5.08 9.06,-10.38 9.06,0 ; 9.16,-5.08 9.16,-10.38 9.16,0 ; 9.26,-5.08 9.26,-10.38 9.26,0 ; 10.205,-10.38 10.205,-2.54 ; 10.305,-10.38 10.305,-2.54 ; 10.405,-10.38 10.405,-2.54 ; 11.35,-5.08 11.35,-10.38 11.35,0 ; 11.45,-5.08 11.45,-10.38 11.45,0 ; 11.55,-5.08 11.55,-10.38 11.55,0 ; 12.495,-10.38 12.495,-2.54 ; 12.595,-10.38 12.595,-2.54 ; 12.695,-10.38 12.695,-2.54 ; 13.64,-5.08 13.64,-10.38 13.64,0 ; 13.74,-5.08 13.74,-10.38 13.74,0 ; 13.84,-5.08 13.84,-10.38 13.84,0 ; 14.785,-10.38 14.785,-2.54 ; 14.885,-10.38 14.885,-2.54 ; 14.985,-10.38 14.985,-2.54 ; 15.93,-5.08 15.93,-10.38 15.93,0 ; 16.03,-5.08 16.03,-10.38 16.03,0 ; 16.13,-5.08 16.13,-10.38 16.13,0 ; 17.075,-10.38 17.075,-2.54 ; 17.175,-10.38 17.175,-2.54 ; 17.275,-10.38 17.275,-2.54 ; 18.22,-5.08 18.22,-10.38 18.22,0 ; 18.32,-5.08 18.32,-10.38 18.32,0 ; 18.42,-5.08 18.42,-10.38 18.42,0 ; 19.365,-10.38 19.365,-2.54 ; 19.465,-10.38 19.465,-2.54 ; 19.565,-10.38 19.565,-2.54 ; 20.51,-5.08 20.51,-10.38 20.51,0 ; 20.61,-5.08 20.61,-10.38 20.61,0 ; 20.71,-5.08 20.71,-10.38 20.71,0 ; 21.655,-10.38 21.655,-2.54 ; 21.755,-10.38 21.755,-2.54 ; 21.855,-10.38 21.855,-2.54 ; 22.8,-5.08 22.8,-10.38 22.8,0 ; 22.9,-5.08 22.9,-10.38 22.9,0 ; 23,-5.08 23,-10.38 23,0 ; 23.945,-10.38 23.945,-2.54 ; 24.045,-10.38 24.045,-2.54 ; 24.145,-10.38 24.145,-2.54 ; 25.09,-5.08 25.09,-10.38 25.09,0 ; 25.19,-5.08 25.19,-10.38 25.19,0 ; 25.29,-5.08 25.29,-10.38 25.29,0 ; 26.235,-10.38 26.235,-2.54 ; 26.335,-10.38 26.335,-2.54 ; 26.435,-10.38 26.435,-2.54 ; 27.38,-5.08 27.38,-10.38 27.38,0 ; 27.48,-5.08 27.48,-10.38 27.48,0 ; 27.58,-5.08 27.58,-10.38 27.58,0 ; 28.525,-10.38 28.525,-2.54 ; 28.625,-10.38 28.625,-2.54 ; 28.725,-10.38 28.725,-2.54 ; 29.67,-5.08 29.67,-10.38 29.67,0 ; 29.77,-5.08 29.77,-10.38 29.77,0 ; 29.87,-5.08 29.87,-10.38 29.87,0 ; 30.815,-10.38 30.815,-2.54 ; 30.915,-10.38 30.915,-2.54 ; 31.015,-10.38 31.015,-2.54 ; 31.96,-10.38 31.96,0 ; 32.06,-10.38 32.06,0 ; 32.16,-10.38 32.16,0 ; -11.025,-14.88 42.075,-14.88 42.075,-14.48 -11.025,-14.48 -11.025,-14.88 ; -4.025,-14.48 35.075,-14.48 35.075,-10.38 -4.025,-10.38 -4.025,-14.48 ; -3.625,-20.88 34.675,-20.88 34.675,-14.88 -3.625,-14.88 -3.625,-20.88
  text "'.Designator'" at 11.478,-18.72 h1

## DSUB-44-HD_Male_Vertical_P2.29x1.98mm_MountingHoles [mm]
pads (46):
  round 4 hole 3.2: 0(-8.025,-1.98) 0(39.075,-1.98)
  rect 1.6x1.6 hole 1: 1(0,0)
  round 1.6 hole 1: 2(2.29,0) 3(4.58,0) 4(6.87,0) 5(9.16,0) 6(11.45,0) 7(13.74,0) 8(16.03,0) 9(18.32,0) 10(20.61,0) 11(22.9,0) 12(25.19,0) 13(27.48,0) 14(29.77,0) 15(32.06,0) 16(-1.145,-1.98) 17(1.145,-1.98) 18(3.435,-1.98) 19(5.725,-1.98) 20(8.015,-1.98) 21(10.305,-1.98) 22(12.595,-1.98) 23(14.885,-1.98) 24(17.175,-1.98) 25(19.465,-1.98) 26(21.755,-1.98) 27(24.045,-1.98) 28(26.335,-1.98) 29(28.625,-1.98) 30(30.915,-1.98) 31(0,-3.96) 32(2.29,-3.96) 33(4.58,-3.96) 34(6.87,-3.96) 35(9.16,-3.96) 36(11.45,-3.96) 37(13.74,-3.96) 38(16.03,-3.96) 39(18.32,-3.96) 40(20.61,-3.96) 41(22.9,-3.96) 42(25.19,-3.96) 43(27.48,-3.96) 44(29.77,-3.96)
F.SilkS:
  lines w0.12: -11.085,-7.23 -11.085,3.27 cw(c-10.025,3.27) -10.025,4.33 41.075,4.33 cw(c41.075,3.27) 42.135,3.27 42.135,-7.23 cw(c41.075,-7.23) 41.075,-8.29 -10.025,-8.29 cw(c-10.025,-7.23) -11.085,-7.23 ; -3.341,0.282 -2.442,-4.818 ccw(c-0.807,-4.53) -0.807,-6.19 31.857,-6.19 ccw(c31.857,-4.53) 33.492,-4.818 34.391,0.282 ccw(c32.757,0.57) 32.757,2.23 -1.707,2.23 ccw(c-1.707,0.57) -3.341,0.282 ; -0.25,5.224 0,4.791 0.25,5.224 -0.25,5.224
F.CrtYd:
  lines w0.05: -11.55,-8.75 42.6,-8.75 42.6,4.8 -11.55,4.8 -11.55,-8.75
F.Fab:
  lines w0.1: -11.025,-7.23 -11.025,3.27 cw(c-10.025,3.27) -10.025,4.27 41.075,4.27 cw(c41.075,3.27) 42.075,3.27 42.075,-7.23 cw(c41.075,-7.23) 41.075,-8.23 -10.025,-8.23 cw(c-10.025,-7.23) -11.025,-7.23 ; -3.294,0.292 -2.395,-4.808 ccw(c-0.819,-4.53) -0.819,-6.13 31.869,-6.13 ccw(c31.869,-4.53) 33.445,-4.808 34.344,0.292 ccw(c32.768,0.57) 32.768,2.17 -1.718,2.17 ccw(c-1.718,0.57) -3.294,0.292
  text "'.Designator'" at 11.478,-2.82 h1

## DSUB-62-HD_Female_Horizontal_P2.41x1.98mm_EdgePinOffset3.03mm_Housed_MountingHolesOffset4.94mm [mm]
pads (64):
  round 4 hole 3.2: 0(-55.295,-2.05) 0(8.205,-2.05)
  rect 1.6x1.6 hole 1: 1(0,0)
  round 1.6 hole 1: 2(-2.41,0) 3(-4.82,0) 4(-7.23,0) 5(-9.64,0) 6(-12.05,0) 7(-14.46,0) 8(-16.87,0) 9(-19.28,0) 10(-21.69,0) 11(-24.1,0) 12(-26.51,0) 13(-28.92,0) 14(-31.33,0) 15(-33.74,0) 16(-36.15,0) 17(-38.56,0) 18(-40.97,0) 19(-43.38,0) 20(-45.79,0) 21(-48.2,0) 22(1.205,-1.98) 23(-1.205,-1.98) 24(-3.615,-1.98) 25(-6.025,-1.98) 26(-8.435,-1.98) 27(-10.845,-1.98) 28(-13.255,-1.98) 29(-15.665,-1.98) 30(-18.075,-1.98) 31(-20.485,-1.98) 32(-22.895,-1.98) 33(-25.305,-1.98) 34(-27.715,-1.98) 35(-30.125,-1.98) 36(-32.535,-1.98) 37(-34.945,-1.98) 38(-37.355,-1.98) 39(-39.765,-1.98) 40(-42.175,-1.98) 41(-44.585,-1.98) 42(-46.995,-1.98) 43(0,-3.96) 44(-2.41,-3.96) 45(-4.82,-3.96) 46(-7.23,-3.96) 47(-9.64,-3.96) 48(-12.05,-3.96) 49(-14.46,-3.96) 50(-16.87,-3.96) 51(-19.28,-3.96) 52(-21.69,-3.96) 53(-24.1,-3.96) 54(-26.51,-3.96) 55(-28.92,-3.96) 56(-31.33,-3.96) 57(-33.74,-3.96) 58(-36.15,-3.96) 59(-38.56,-3.96) 60(-40.97,-3.96) 61(-43.38,-3.96) 62(-45.79,-3.96)
F.SilkS:
  lines w0.12: -58.305,-6.93 -58.305,1.67 11.215,1.67 11.215,-6.93 ; -0.25,2.564 0.25,2.564 0,2.131 -0.25,2.564
F.CrtYd:
  lines w0.05: -58.75,-13.9 11.7,-13.9 11.7,2.15 -58.75,2.15 -58.75,-13.9
F.Fab:
  lines w0.1: -56.895,-6.99 -56.895,-2.05 cw(c-55.295,-2.05) -53.695,-2.05 -53.695,-6.99 ; 6.605,-6.99 6.605,-2.05 cw(c8.205,-2.05) 9.805,-2.05 9.805,-6.99 ; -58.245,-6.99 11.155,-6.99 ; -58.245,-6.99 11.155,-6.99 ; -58.245,-6.99 -58.245,1.61 11.155,1.61 11.155,-6.99 ; -58.245,-6.99 -58.245,-7.39 11.155,-7.39 11.155,-6.99 ; -57.795,-12.39 -57.795,-7.39 -52.795,-7.39 -52.795,-12.39 -57.795,-12.39 ; -50.945,-13.39 -50.945,-7.39 3.855,-7.39 3.855,-13.39 -50.945,-13.39 ; 5.705,-12.39 5.705,-7.39 10.705,-7.39 10.705,-12.39 5.705,-12.39
  text "'.Designator'" at -27.592,-11.23 h1

## DSUB-62-HD_Female_Horizontal_P2.41x1.98mm_EdgePinOffset8.35mm_Housed_MountingHolesOffset10.89mm [mm]
pads (64):
  round 4 hole 3.2: 0(-55.295,-1.42) 0(8.205,-1.42)
  rect 1.6x1.6 hole 1: 1(0,0)
  round 1.6 hole 1: 2(-2.41,0) 3(-4.82,0) 4(-7.23,0) 5(-9.64,0) 6(-12.05,0) 7(-14.46,0) 8(-16.87,0) 9(-19.28,0) 10(-21.69,0) 11(-24.1,0) 12(-26.51,0) 13(-28.92,0) 14(-31.33,0) 15(-33.74,0) 16(-36.15,0) 17(-38.56,0) 18(-40.97,0) 19(-43.38,0) 20(-45.79,0) 21(-48.2,0) 22(1.205,-1.98) 23(-1.205,-1.98) 24(-3.615,-1.98) 25(-6.025,-1.98) 26(-8.435,-1.98) 27(-10.845,-1.98) 28(-13.255,-1.98) 29(-15.665,-1.98) 30(-18.075,-1.98) 31(-20.485,-1.98) 32(-22.895,-1.98) 33(-25.305,-1.98) 34(-27.715,-1.98) 35(-30.125,-1.98) 36(-32.535,-1.98) 37(-34.945,-1.98) 38(-37.355,-1.98) 39(-39.765,-1.98) 40(-42.175,-1.98) 41(-44.585,-1.98) 42(-46.995,-1.98) 43(0,-3.96) 44(-2.41,-3.96) 45(-4.82,-3.96) 46(-7.23,-3.96) 47(-9.64,-3.96) 48(-12.05,-3.96) 49(-14.46,-3.96) 50(-16.87,-3.96) 51(-19.28,-3.96) 52(-21.69,-3.96) 53(-24.1,-3.96) 54(-26.51,-3.96) 55(-28.92,-3.96) 56(-31.33,-3.96) 57(-33.74,-3.96) 58(-36.15,-3.96) 59(-38.56,-3.96) 60(-40.97,-3.96) 61(-43.38,-3.96) 62(-45.79,-3.96)
F.SilkS:
  lines w0.12: -58.305,-12.25 -58.305,1.64 11.215,1.64 11.215,-12.25 ; -0.25,2.534 0.25,2.534 0,2.101 -0.25,2.534
F.CrtYd:
  lines w0.05: -58.75,-19.25 -58.75,2.1 11.7,2.1 11.7,-19.25 -58.75,-19.25
F.Fab:
  lines w0.1: -56.895,-12.31 -56.895,-1.42 cw(c-55.295,-1.42) -53.695,-1.42 -53.695,-12.31 ; 6.605,-12.31 6.605,-1.42 cw(c8.205,-1.42) 9.805,-1.42 9.805,-12.31 ; -58.245,-12.31 11.155,-12.31 ; -58.245,-12.31 11.155,-12.31 ; -58.245,-12.31 -58.245,1.58 11.155,1.58 11.155,-12.31 ; -58.245,-12.31 -58.245,-12.71 11.155,-12.71 11.155,-12.31 ; -57.795,-17.71 -57.795,-12.71 -52.795,-12.71 -52.795,-17.71 -57.795,-17.71 ; -50.945,-18.71 3.855,-18.71 3.855,-12.71 -50.945,-12.71 -50.945,-18.71 ; 5.705,-17.71 5.705,-12.71 10.705,-12.71 10.705,-17.71 5.705,-17.71
  text "'.Designator'" at -27.592,-16.55 h1